# Altium schematic symbol library IMTP_Atmel.SchLib: 3 symbols
Pins are listed as number, name and electrical type; pins without a type are passive.

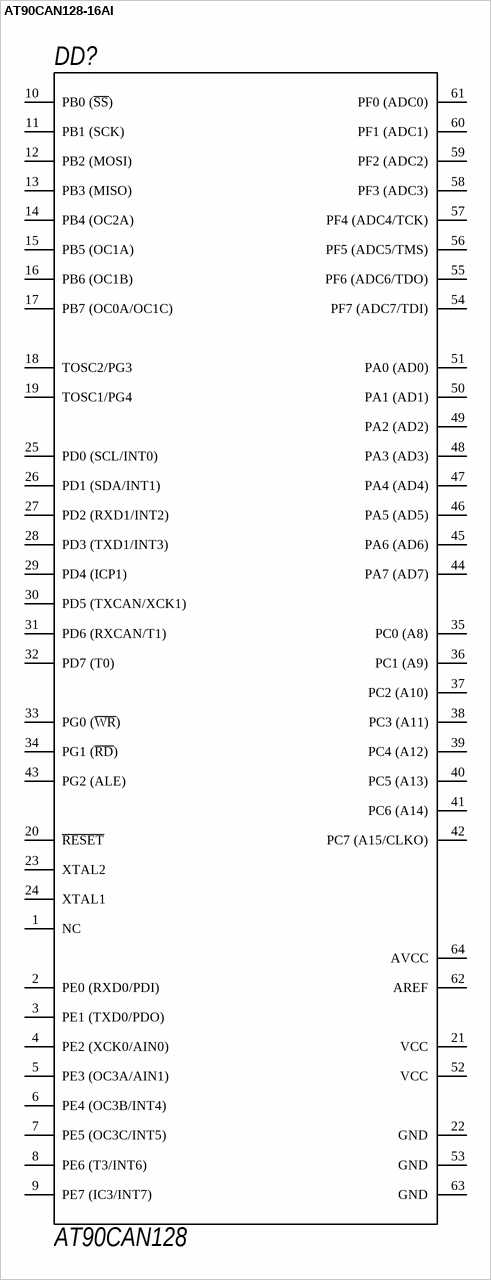
[diagram p0: symbol AT90CAN128-16AI]

## AT90CAN128-16AI
designator DD?, comment AT90CAN128
8-Bit AVR Microcontroller; OutComment: AT90CAN128-16AI; Publisher: IMTP FEB RAS; PackageDescription: 64-Pin Thin Quad Flat Pack 0.8 mm Pitch; Name: AT90CAN128; LatestRevisionDate: 22.03.2010
footprint 64A_N (Thin QFP, 64-Leads, Body 14x14mm, Pitch 0.8mm, IPC Medium Density)
pins: 1 NC, 2 PE0 (RXD0/PDI), 3 PE1 (TXD0/PDO), 4 PE2 (XCK0/AIN0), 5 PE3 (OC3A/AIN1), 6 PE4 (OC3B/INT4), 7 PE5 (OC3C/INT5), 8 PE6 (T3/INT6), 9 PE7 (IC3/INT7), 10 PB0 (~{SS}), 11 PB1 (SCK), 12 PB2 (MOSI), 13 PB3 (MISO), 14 PB4 (OC2A), 15 PB5 (OC1A), 16 PB6 (OC1B), 17 PB7 (OC0A/OC1C), 18 TOSC2/PG3, 19 TOSC1/PG4, 20 ~{RESET}, 21 VCC (power), 22 GND (power), 23 XTAL2, 24 XTAL1, 25 PD0 (SCL/INT0), 26 PD1 (SDA/INT1), 27 PD2 (RXD1/INT2), 28 PD3 (TXD1/INT3), 29 PD4 (ICP1), 30 PD5 (TXCAN/XCK1), 31 PD6 (RXCAN/T1), 32 PD7 (T0), 33 PG0 (~{WR}), 34 PG1 (~{RD}), 35 PC0 (A8), 36 PC1 (A9), 37 PC2 (A10), 38 PC3 (A11), 39 PC4 (A12), 40 PC5 (A13), 41 PC6 (A14), 42 PC7 (A15/CLKO), 43 PG2 (ALE), 44 PA7 (AD7), 45 PA6 (AD6), 46 PA5 (AD5), 47 PA4 (AD4), 48 PA3 (AD3), 49 PA2 (AD2), 50 PA1 (AD1), 51 PA0 (AD0), 52 VCC (power), 53 GND (power), 54 PF7 (ADC7/TDI), 55 PF6 (ADC6/TDO), 56 PF5 (ADC5/TMS), 57 PF4 (ADC4/TCK), 58 PF3 (ADC3), 59 PF2 (ADC2), 60 PF1 (ADC1), 61 PF0 (ADC0), 62 AREF, 63 GND (power), 64 AVCC (power)

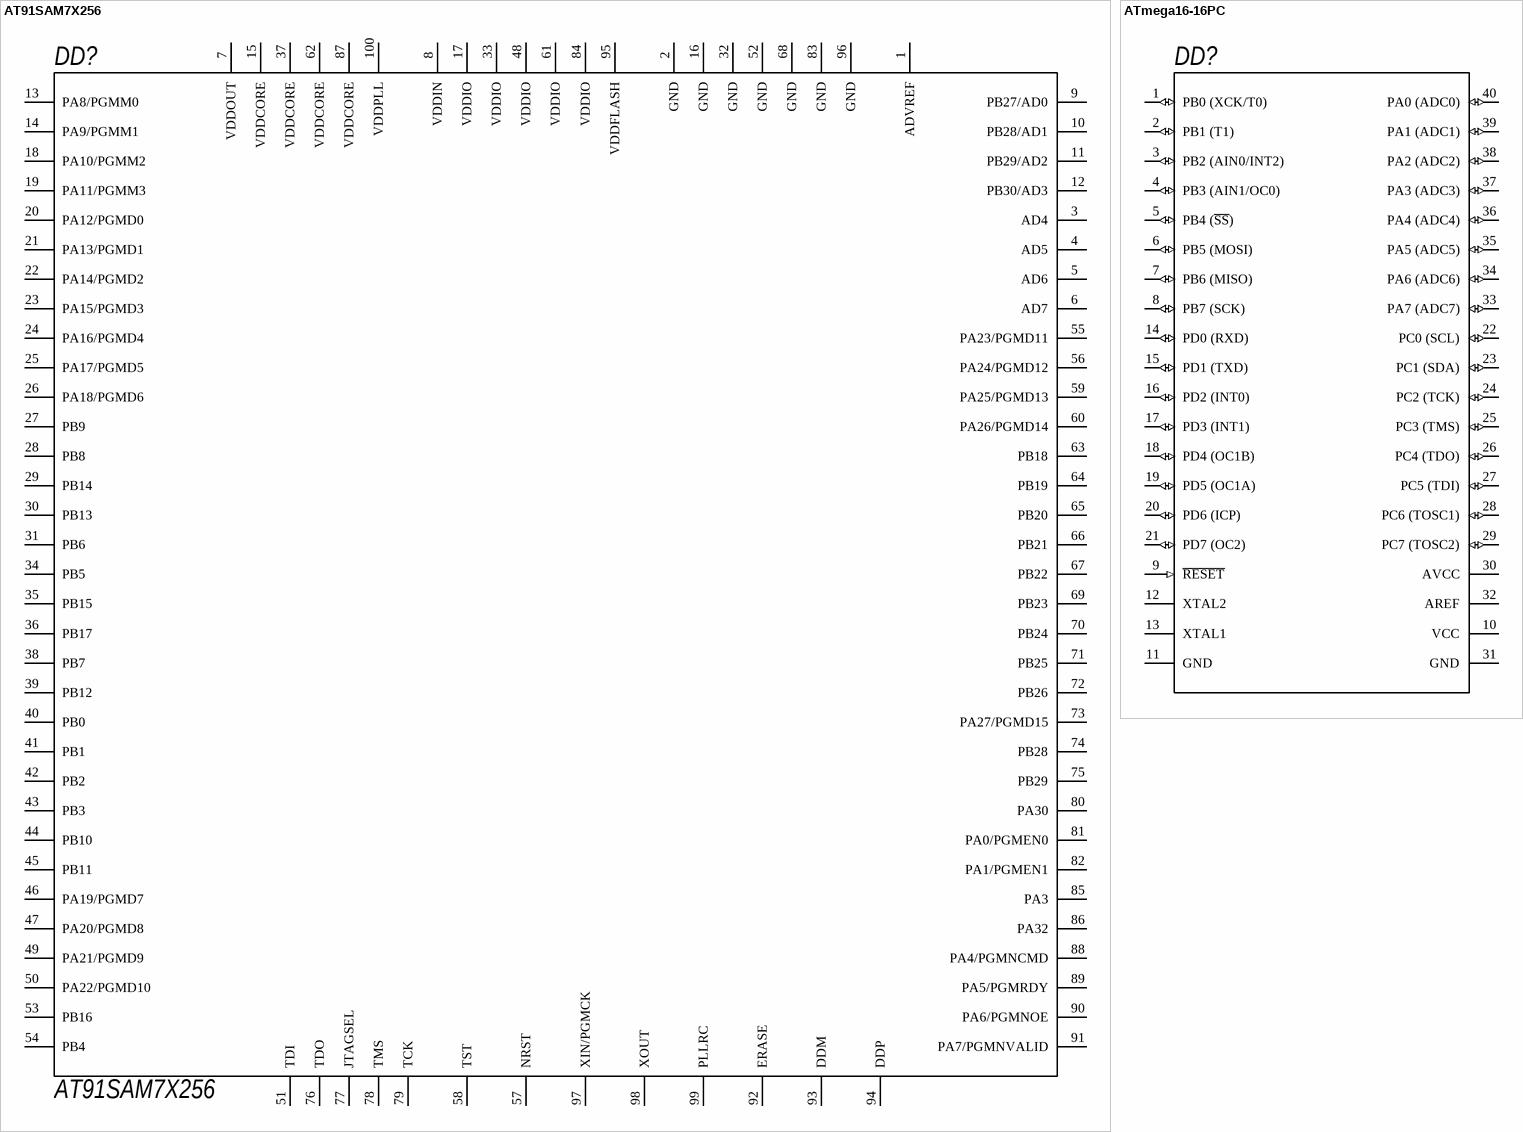
[diagram p1: symbols AT91SAM7X256 to ATmega16-16PC]

## AT91SAM7X256
designator DD?
8-Bit AVR Microcontroller; Publisher: IMTP FEB RAS; PackageDescription: 64-Pin Thin Quad Flat Pack 0.8 mm Pitch; OutComment: AT91SAM7X256; Name: AT91SAM7X256; LatestRevisionDate: 22.03.2010
footprint LQFP100_M (Thin QFP, 100-Leads, Body 14x14mm, Pitch 0.5mm, IPC Low Density)
pins: 1 ADVREF, 2 GND, 3 AD4, 4 AD5, 5 AD6, 6 AD7, 7 VDDOUT, 8 VDDIN, 9 PB27/AD0, 10 PB28/AD1, 11 PB29/AD2, 12 PB30/AD3, 13 PA8/PGMM0, 14 PA9/PGMM1, 15 VDDCORE, 16 GND, 17 VDDIO, 18 PA10/PGMM2, 19 PA11/PGMM3, 20 PA12/PGMD0, 21 PA13/PGMD1 (power), 22 PA14/PGMD2 (power), 23 PA15/PGMD3, 24 PA16/PGMD4, 25 PA17/PGMD5, 26 PA18/PGMD6, 27 PB9, 28 PB8, 29 PB14, 30 PB13, 31 PB6, 32 GND, 33 VDDIO, 34 PB5, 35 PB15, 36 PB17, 37 VDDCORE, 38 PB7, 39 PB12, 40 PB0, 41 PB1, 42 PB2, 43 PB3, 44 PB10, 45 PB11, 46 PA19/PGMD7, 47 PA20/PGMD8, 48 VDDIO, 49 PA21/PGMD9, 50 PA22/PGMD10, 51 TDI, 52 GND (power), 53 PB16 (power), 54 PB4, 55 PA23/PGMD11, 56 PA24/PGMD12, 57 NRST, 58 TST, 59 PA25/PGMD13, 60 PA26/PGMD14, 61 VDDIO, 62 VDDCORE, 63 PB18 (power), 64 PB19 (power), 65 PB20, 66 PB21, 67 PB22, 68 GND (power), 69 PB23 (power), 70 PB24 (power), 71 PB25 (power), 72 PB26 (power), 73 PA27/PGMD15 (power), 74 PB28 (power), 75 PB29 (power), 76 TDO (power), 77 JTAGSEL (power), 78 TMS (power), 79 TCK (power), 80 PA30 (power), 81 PA0/PGMEN0 (power), 82 PA1/PGMEN1 (power), 83 GND (power), 84 VDDIO (power), 85 PA3 (power), 86 PA32 (power), 87 VDDCORE (power), 88 PA4/PGMNCMD (power), 89 PA5/PGMRDY (power), 90 PA6/PGMNOE (power), 91 PA7/PGMNVALID (power), 92 ERASE (power), 93 DDM (power), 94 DDP (power), 95 VDDFLASH (power), 96 GND (power), 97 XIN/PGMCK (power), 98 XOUT (power), 99 PLLRC (power), 100 VDDPLL (power)

## ATmega16-16PC
designator DD?
8-Bit AVR Microcontroller with 16K Bytes of In-System Programmable Flash Memory; Published: 17-Sep-2003; LatestRevisionDate: 04-Mar-2005; LatestRevisionNote: Stylized 3D Model Added.; DatasheetVersion: 2466E-AVR-10/02; PackageVersion: Dec-1999; PackageReference: 40P6; Publisher: Altium Limited; PackageDescription: DIP; 40 Leads; Row Spacing 15.24 mm; Pitch 2.54 mm; ComponentLink1Description: Manufacturer Link; ComponentLink1URL: http://www.atmel.com; ComponentLink2Description: Datasheet; ComponentLink2URL: http://www.atmel.com/dyn/resources/prod_documents/doc2466.pdf
footprint 40P6 (DIP; 40 Leads; Row Spacing 15.24 mm; Pitch 2.54 mm)
3D model 40P6 (DIP; 40 Leads; Row Spacing 15.24 mm; Pitch 2.54 mm)
pins: 1 PB0 (XCK/T0) (io), 2 PB1 (T1) (io), 3 PB2 (AIN0/INT2) (io), 4 PB3 (AIN1/OC0) (io), 5 PB4 (~{SS}) (io), 6 PB5 (MOSI) (io), 7 PB6 (MISO) (io), 8 PB7 (SCK) (io), 9 ~{RESET} (in), 10 VCC (power), 11 GND (power), 12 XTAL2, 13 XTAL1, 14 PD0 (RXD) (io), 15 PD1 (TXD) (io), 16 PD2 (INT0) (io), 17 PD3 (INT1) (io), 18 PD4 (OC1B) (io), 19 PD5 (OC1A) (io), 20 PD6 (ICP) (io), 21 PD7 (OC2) (io), 22 PC0 (SCL) (io), 23 PC1 (SDA) (io), 24 PC2 (TCK) (io), 25 PC3 (TMS) (io), 26 PC4 (TDO) (io), 27 PC5 (TDI) (io), 28 PC6 (TOSC1) (io), 29 PC7 (TOSC2) (io), 30 AVCC (power), 31 GND (power), 32 AREF, 33 PA7 (ADC7) (io), 34 PA6 (ADC6) (io), 35 PA5 (ADC5) (io), 36 PA4 (ADC4) (io), 37 PA3 (ADC3) (io), 38 PA2 (ADC2) (io), 39 PA1 (ADC1) (io), 40 PA0 (ADC0) (io)